# EAGLE library part 74*605 (library 74xx-eu)
Octal 2-input MULTIPLEXED LATCH
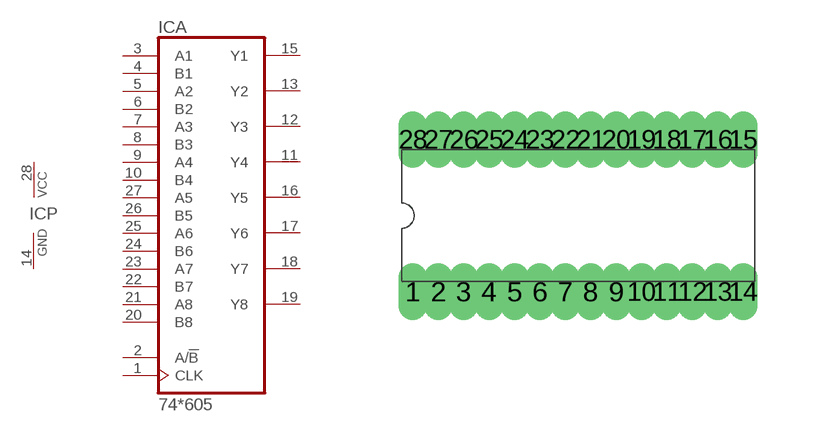
[diagram p259: symbol with the pads of DIL28-6; footprint DIL28-6]

Designator prefix IC; gates A=74605 P=PWRN

## 74605N  [DIL28-6]
1  A:CLK  in
2  A:A/!B  in
3  A:A1  in
4  A:B1  in
5  A:A2  in
6  A:B2  in
7  A:A3  in
8  A:B3  in
9  A:A4  in
10  A:B4  in
11  A:Y4  oc
12  A:Y3  oc
13  A:Y2  oc
14  P:GND  pwr
15  A:Y1  oc
16  A:Y5  oc
17  A:Y6  oc
18  A:Y7  oc
19  A:Y8  oc
20  A:B8  in
21  A:A8  in
22  A:B7  in
23  A:A7  in
24  A:B6  in
25  A:A6  in
26  A:B5  in
27  A:A5  in
28  P:VCC  pwr

## Footprint DIL28-6 (pad centres in mm)
Dual In Line Package 0.6 inch
drill 0.203 long: 1 -4.128,-1.905; 2 -3.493,-1.905; 3 -2.857,-1.905; 4 -2.223,-1.905; 5 -1.587,-1.905; 6 -0.953,-1.905; 7 -0.318,-1.905; 8 0.318,-1.905; 9 0.953,-1.905; 10 1.587,-1.905; 11 2.223,-1.905; 12 2.857,-1.905; 13 3.493,-1.905; 14 4.128,-1.905; 15 4.128,1.905; 16 3.493,1.905; 17 2.857,1.905; 18 2.223,1.905; 19 1.587,1.905; 20 0.953,1.905; 21 0.318,1.905; 22 -0.318,1.905; 23 -0.953,1.905; 24 -1.587,1.905; 25 -2.223,1.905; 26 -2.857,1.905; 27 -3.493,1.905; 28 -4.128,1.905